# Altium footprint library SMD_Capacitor_Series_PCB_Library_ARAF.PcbLib: 2 footprints
Each footprint in its own frame and in the unit in brackets; x right, y up, seen from the top. Pads: shape width x height; smd on the part's side, far side on the other; paste and mask are expansions set on the pad; w line width, h text height; cw(c..) or ccw(c..) is an arc to the next point about the centre after c.
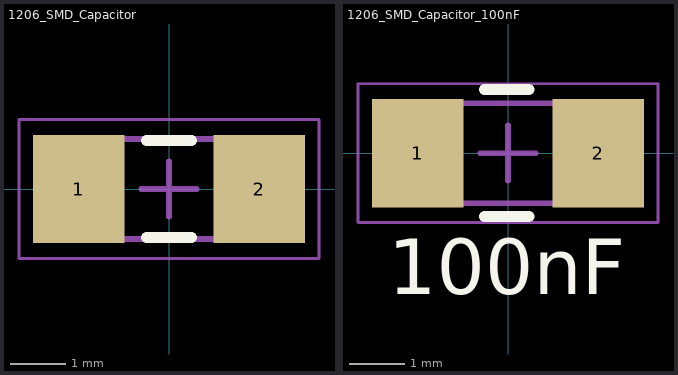
[diagram p0: the footprints below, top view; thin cyan lines are the x and y axes]

## 1206_SMD_Capacitor [mm] "Chip Capacitor, 2-Leads, Body 4.05x1.80mm, IPC Medium Density"
height 1
pads (2):
  rect 1.65x1.95 smd: 1(-1.625,0) 2(1.625,0)
Top Overlay:
  lines w0.2: -0.4,-0.875 0.4,-0.875 ; -0.4,0.875 0.4,0.875
Mechanical 13:
  lines w0.1: -2.025,-0.9 -2.025,0.9 2.025,0.9 2.025,-0.9 -2.025,-0.9
Mechanical 15:
  lines w0.05: -2.7,-1.25 -2.7,1.25 2.7,1.25 2.7,-1.25 -2.7,-1.25
  lines w0.1: -0.5,0 0.5,0 ; 0,-0.5 0,0.5
3D body "CAPC4018X10N.step": height 1, standoff 0, extent -2.025,-0.9 2.025,0.9

## 1206_SMD_Capacitor_100nF [mm] "Chip Capacitor, 2-Leads, Body 4.05x1.80mm, IPC Medium Density"
height 1
pads (2):
  rect 1.65x1.95 smd: 1(-1.625,0) 2(1.625,0)
Top Overlay:
  lines w0.2: -0.419,-1.143 0.381,-1.143 ; -0.419,1.143 0.381,1.143
  text "100nF" at -2.159,-2.54 h1
Mechanical 13:
  lines w0.1: -2.025,-0.9 2.025,-0.9 2.025,0.9 -2.025,0.9 -2.025,-0.9
Mechanical 15:
  lines w0.05: -2.7,-1.25 2.7,-1.25 2.7,1.25 -2.7,1.25 -2.7,-1.25
  lines w0.1: -0.5,0 0.5,0 ; 0,-0.5 0,0.5
3D body "CAPC4018X10N.step": height 1, standoff 0, extent -2.025,-0.9 2.025,0.9